# Altium footprint library MOLEX_504050-0691.PcbLib: 1 footprints
Each footprint in its own frame and in the unit in brackets; x right, y up, seen from the top. Pads: shape width x height; smd on the part's side, far side on the other; paste and mask are expansions set on the pad; w line width, h text height; cw(c..) or ccw(c..) is an arc to the next point about the centre after c.
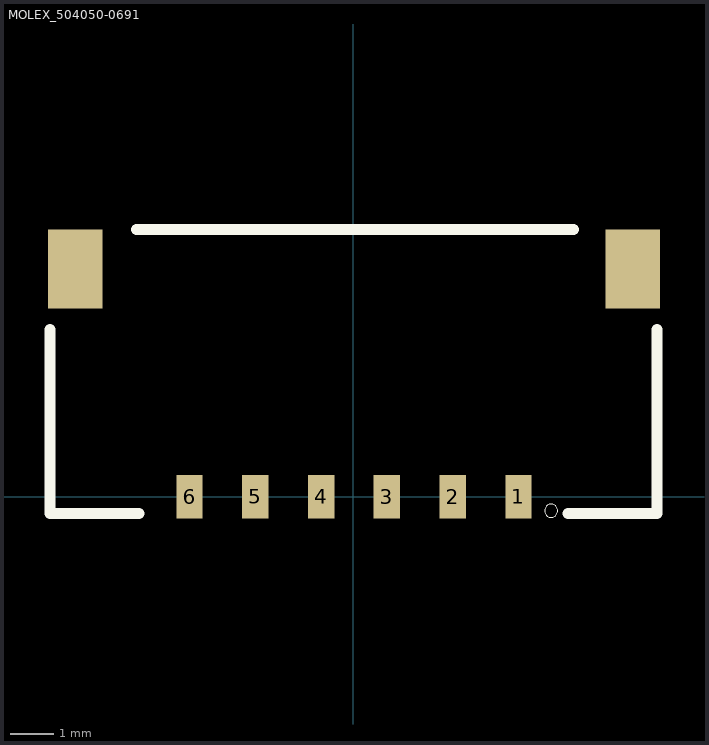
[diagram p0: the footprint, top view; thin cyan lines are the x and y axes]

## MOLEX_504050-0691 [mm] "Molex connector to antenna"
height 2
pads (8):
  rect 0.6x1 smd: 1(3.762,0) 2(2.262,0) 3(0.762,0) 4(-0.738,0) 5(-2.238,0) 6(-3.738,0)
  rect 1.25x1.8 smd: ""(-6.343,5.19) ""(6.367,5.19)
Top Overlay:
  circle w0: c4.509,-0.32 r0.15
  lines w0.254: -6.921,3.81 -6.921,-0.381 -4.889,-0.381 ; -4.946,6.096 5.017,6.096 ; 4.89,-0.381 6.922,-0.381 6.922,3.81
3D body "5040500691.stp": height 1.98, standoff -0.02, extent -6.775,-0.34 6.775,6.1